# Altium schematic symbol library Skumpad.SchLib: 2 symbols
Pins are listed as number, name and electrical type; pins without a type are passive.

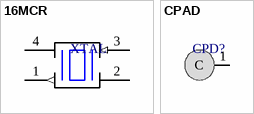
[diagram p0: symbols 16MCR to CPAD]

## 16MCR
designator XTAL  (value not drawn)
16Mhz crystal resonator, JLCPCB #C13738
footprint XTAL16M (A 16Mhz crystal resonator footprint, JLCPCB #C13738)
pins: 1 (out), 2 (power), 3 (in), 4 (power)

## CPAD
designator CPD?
footprint CPAD
pins: 1 (power)
text: C